# Altium footprint library LCD2.8_TFT_ili932x.PcbLib: 1 footprints
Each footprint in its own frame and in the unit in brackets; x right, y up, seen from the top. Pads: shape width x height; smd on the part's side, far side on the other; paste and mask are expansions set on the pad; w line width, h text height; cw(c..) or ccw(c..) is an arc to the next point about the centre after c.
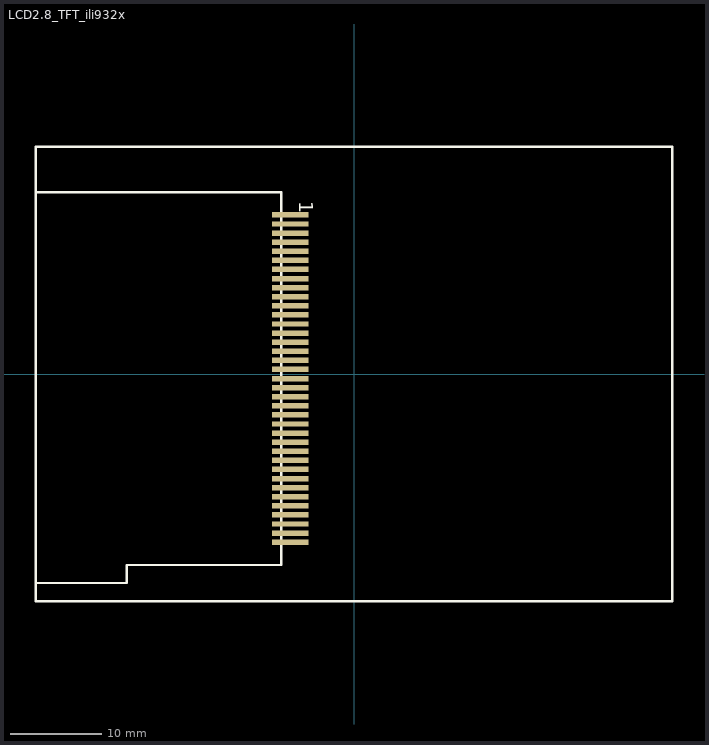
[diagram p0: the footprint, top view; thin cyan lines are the x and y axes]

## LCD2.8_TFT_ili932x [mm]
pads (37):
  rect 4x0.6 smd: 1(-7,17.5) 2(-7,16.5) 3(-7,15.5) 4(-7,14.5) 5(-7,13.5) 6(-7,12.5) 7(-7,11.5) 8(-7,10.5) 9(-7,9.5) 10(-7,8.5) 11(-7,7.5) 12(-7,6.5) 13(-7,5.5) 14(-7,4.5) 15(-7,3.5) 16(-7,2.5) 17(-7,1.5) 18(-7,0.5) 19(-7,-0.5) 20(-7,-1.5) 21(-7,-2.5) 22(-7,-3.5) 23(-7,-4.5) 24(-7,-5.5) 25(-7,-6.5) 26(-7,-7.5) 27(-7,-8.5) 28(-7,-9.5) 29(-7,-10.5) 30(-7,-11.5) 31(-7,-12.5) 32(-7,-13.5) 33(-7,-14.5) 34(-7,-15.5) 35(-7,-16.5) 36(-7,-17.5) 37(-7,-18.5)
Top Overlay:
  lines w0.254: -35,-23 -25,-23 -25,-21 -8,-21 -8,20 -35,20 ; -35,-25 35,-25 35,25 -35,25 -35,-25
  text "1" at -6,19 h1.52